# Altium integrated library pwm card.IntLib: 6 symbols
Pins are listed as number, name and electrical type; pins without a type are passive.

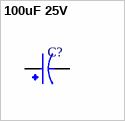
[diagram p0: symbol 100uF 25V]

## 100uF 25V
designator C?
footprint CAPPRD250W50D630H1120
pins: N, P


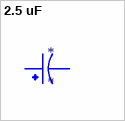
[diagram p1: symbol 2.5 uF]

## 2.5 uF
designator *
footprint CAPPRD200W50D550H1250 - duplicate
pins: 1, 2


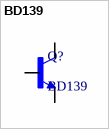
[diagram p2: symbol BD139]

## BD139
designator Q?
footprint TO229P780X300X1364-3 - duplicate
pins: 1 B, 2 C, 3 E


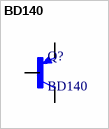
[diagram p3: symbol BD140]

## BD140
designator Q?
footprint TO229P760X270X1364-3
pins: 1 E, 2 C, 3 B


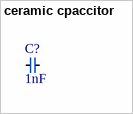
[diagram p4: symbol ceramic cpaccitor]

## ceramic cpaccitor
designator C?, comment 1nF
footprint ceramic capacitor
pins: 1, 2


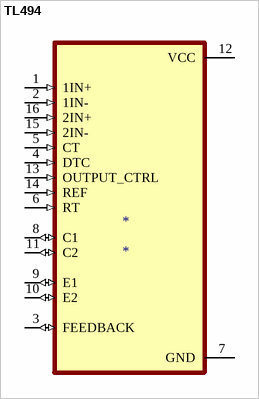
[diagram p5: symbol TL494]

## TL494
designator *
footprint DIP794W45P254L1969H508Q16
pins: 1 1IN+ (in), 2 1IN- (in), 3 FEEDBACK (io), 4 DTC (in), 5 CT (in), 6 RT (in), 7 GND (power), 8 C1 (io), 9 E1 (io), 10 E2 (io), 11 C2 (io), 12 VCC (power), 13 OUTPUT_CTRL (in), 14 REF (in), 15 2IN- (in), 16 2IN+ (in)